# Altium footprint library Switches.PcbLib: 8 footprints
Each footprint in its own frame and in the unit in brackets; x right, y up, seen from the top. Pads: shape width x height; smd on the part's side, far side on the other; paste and mask are expansions set on the pad; w line width, h text height; cw(c..) or ccw(c..) is an arc to the next point about the centre after c.
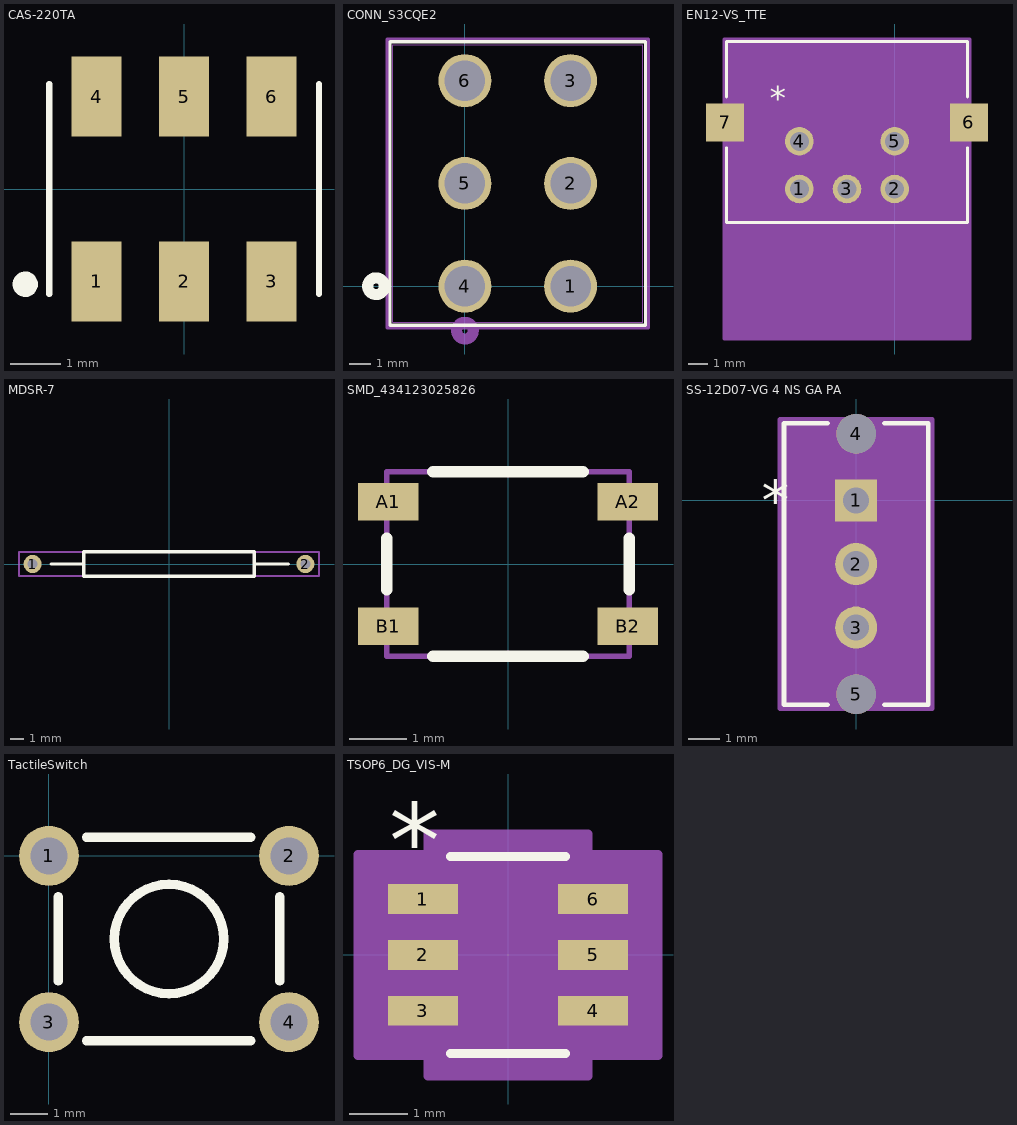
[diagram p0: the footprints below, top view; thin cyan lines are the x and y axes]

## CAS-220TA [mm] "SWITCH SLIDE DPDT 100MA 6V"
pads (6):
  rrect0% 1x1.6 smd: 1(-1.75,-1.85) 2(0,-1.85) 3(1.75,-1.85) 4(-1.75,1.85) 5(0,1.85) 6(1.75,1.85)
Top Overlay:
  circle w0.254: c-3.175,-1.905 r0.127
  lines w0.127: -2.7,-2.1 -2.7,2.1 ; 2.7,-2.1 2.7,2.1
3D body "CAS-220TA.stp": height 2.51, standoff 0.01, extent -2.7,-2.1 2.7,2.1

## CONN_S3CQE2 [mm]
pads (6):
  round 2.424 hole 1.85 mask+0: 1(4.83,0) 2(4.83,4.7) 3(4.83,9.4) 4(0,0) 5(0,4.7) 6(0,9.4)
Top Overlay:
  circle w0.508: c-4.062,0 r0.381
  lines w0.152: -3.427,-1.777 -3.427,11.177 8.257,11.177 8.257,-1.777 -3.427,-1.777
Bottom Overlay:
  circle w0.508: c-4.062,0 r0.381
Mechanical 13:
  circle w0.508: c0,-2.032 r0.381
  lines w0.025: -3.3,-1.65 -3.3,11.05 8.13,11.05 8.13,-1.65 -3.3,-1.65
Mechanical 15:
  lines w0.152: -3.554,-1.904 8.384,-1.904 8.384,11.304 -3.554,11.304 -3.554,-1.904
3D body: height 0.25, standoff 0, extent 0,0 0.254,0.254
3D body "1201M2S1CQE2.stp": height 11.2, standoff -4.42, extent -3.289,-1.651 8.115,11.049

## EN12-VS_TTE [mil]
pads (7):
  round 59 / inner round 60 / far side round 59 hole 39 paste-99999 mask+0: 1(-196.85,-344) 2(0,-344) 3(-98.43,-344) 4(-196.85,-245.57) 5(0,-245.57)
  rect 78.74x78.74 smd paste-39.37 mask-39.5: 6(153.57,-206.25) 7(-350.43,-206.25)
Top Overlay:
  lines w6: -347.43,-258.72 -347.43,-413 150.57,-413 150.57,-258.72 ; -347.43,-153.78 -347.43,-39.07 150.57,-39.07 150.57,-153.78
  text "*" at -258.56,-181.21 h50
Mechanical 13:
  lines w1: -216.43,-408 -216.43,-644 19.57,-644 19.57,-408 ; -342.43,-408 -342.43,-44.07 145.57,-44.07 145.57,-408 -342.43,-408
  text "*" at -258.56,-104 h50
Mechanical 15:
  region: 145.57,-44.07 -342.43,-44.07 -342.43,-408 145.57,-408
  region: 155.57,-34.07 -352.43,-34.07 -352.43,-654 155.57,-654
  lines w6: -352.43,-654 155.57,-654 155.57,-34.07 -352.43,-34.07 -352.43,-654

## MDSR-7 [mm] "Littelfuse MDSR-7 12.7mm Sub-miniature Reed Switch"
pads (2):
  round 1.35 hole 0.75: 1(-10.16,0) 2(10.16,0)
Top Overlay:
  lines w0.254: -8.763,0 -6.35,0 ; 6.35,0 8.89,0 ; -6.35,-0.9 6.35,-0.9 6.35,0.9 -6.35,0.9 -6.35,-0.9
Mechanical 1:
  lines w0.127: -11.176,-0.9 11.176,-0.9 11.176,0.9 -11.176,0.9 -11.176,-0.9
3D body: height 0.51, standoff 0, extent -8.89,-0.127 -6.223,0.127
3D body: height 1.13, standoff 0, extent -10.395,-0.235 -9.925,0.235
3D body: height 1.13, standoff 0, extent 9.925,-0.235 10.395,0.235
3D body: height 1.8, standoff 0, extent -6.35,-0.9 6.35,0.9
3D body: height 1.14, standoff 0.66, extent -10.16,-0.235 10.16,0.235

## SMD_434123025826 [mm]
pads (4):
  rect 1.05x0.65 smd: A1(-2.075,1.075) A2(2.075,1.075) B1(-2.075,-1.075) B2(2.075,-1.075)
Top Overlay:
  lines w0.2: -2.1,-0.45 -2.1,0.45 ; -1.3,-1.6 1.3,-1.6 ; -1.3,1.6 1.3,1.6 ; 2.1,-0.45 2.1,0.45
Top 3D Body:
  lines w0.1: -2.1,-1.6 -2.1,1.6 2.1,1.6 2.1,-1.6 -2.1,-1.6
Top Component Outline:
  lines w0.1: -2.1,-1.6 2.1,-1.6 2.1,1.6 -2.1,1.6 -2.1,-1.6
3D body "4341x30258x6.stp": height 2.5, standoff 0, extent -2.299,-1.6 2.299,1.6

## SS-12D07-VG 4 NS GA PA [mil]
pads (5):
  rect 52x52 / inner round 60 / far side rect 52x52 hole 32 paste-99999 mask+0: 1(0,0)
  round 52 / inner round 60 / far side round 52 hole 32 paste-99999 mask+0: 2(0,-78.74) 3(0,-157.48)
  round 49 / inner round 60 / far side round 49 hole 49 unplated paste-99999 mask-24.5: 4(0,82.68) 5(0,-240.16)
Top Overlay:
  lines w6: -35.25,-253.24 -89.5,-253.24 -89.5,95.76 -35.25,95.76 ; 35.25,-253.24 89.5,-253.24 89.5,95.76 35.25,95.76
  text "*" at -117,-25 h50
Mechanical 13:
  region: 52.5,-188.74 -52.5,-188.74 -52.5,-78.74 52.5,-78.74
  lines w1: -84.5,-248.24 -84.5,90.76 84.5,90.76 84.5,-248.24 -84.5,-248.24 ; -52.5,-188.74 52.5,-188.74 52.5,31.26 -52.5,31.26 -52.5,-188.74
  text "*" at -82,-25 h50
Mechanical 15:
  region: 94.5,-258.24 -94.5,-258.24 -94.5,100.76 94.5,100.76
  lines w6: -94.5,-258.24 -94.5,100.76 94.5,100.76 94.5,-258.24 -94.5,-258.24

## TactileSwitch [mm]
pads (4):
  round 1.62 hole 1: 1(0,0) 2(6.5,0) 3(0,-4.5) 4(6.5,-4.5)
Top Overlay:
  circle w0.254: c3.25,-2.25 r1.481
  lines w0.254: 0.254,-3.387 0.254,-1.101 ; 1.016,-5.008 5.461,-5.008 ; 1.016,0.508 5.461,0.508 ; 6.246,-3.387 6.246,-1.101
3D body "b3f-1062.STEP": height 7.01, standoff -3.49, extent -0.597,-5.244 7.103,0.756

## TSOP6_DG_VIS-M [mil]
pads (6):
  rect 47x20 smd paste+0 mask+0: 1(-57,37.4) 2(-57,0) 3(-57,-37.4) 4(57,-37.4) 5(57,0) 6(57,37.4)
Top Overlay:
  lines w6: -38.5,-66 38.5,-66 ; -38.5,66 38.5,66
  text "*" at -79.5,52.4 h50
Mechanical 13:
  lines w0: -12,61 ccw(c0,61) 12,61
  lines w1: -58.5,-46.4 -33.5,-46.4 -33.5,-28.4 -58.5,-28.4 -58.5,-46.4 ; -58.5,-9 -33.5,-9 -33.5,9 -58.5,9 -58.5,-9 ; -58.5,28.4 -33.5,28.4 -33.5,46.4 -58.5,46.4 -58.5,28.4 ; -33.5,-61 -33.5,61 33.5,61 33.5,-61 -33.5,-61 ; 33.5,-46.4 58.5,-46.4 58.5,-28.4 33.5,-28.4 33.5,-46.4 ; 33.5,-9 58.5,-9 58.5,9 33.5,9 33.5,-9 ; 33.5,28.4 58.5,28.4 58.5,46.4 33.5,46.4 33.5,28.4
  text "*" at -31,8 h50
Mechanical 15:
  region: -53.5,-67.4 -100.5,-67.4 -100.5,67.4 -53.5,67.4 -53.5,81 53.5,81 53.5,67.4 100.5,67.4 100.5,-67.4 53.5,-67.4 53.5,-81 -53.5,-81
  lines w6: -100.5,-67.4 -53.5,-67.4 -53.5,-81 53.5,-81 53.5,-67.4 100.5,-67.4 100.5,67.4 53.5,67.4 53.5,81 -53.5,81 -53.5,67.4 -100.5,67.4 -100.5,-67.4
3D body "TSOP6_DG_VIS.step": height 43.11, standoff 0, extent -58.5,-60.98 58.5,60.98